# Altium footprint library OptoCoupler.PcbLib: 1 footprints
Each footprint in its own frame and in the unit in brackets; x right, y up, seen from the top. Pads: shape width x height; smd on the part's side, far side on the other; paste and mask are expansions set on the pad; w line width, h text height; cw(c..) or ccw(c..) is an arc to the next point about the centre after c.
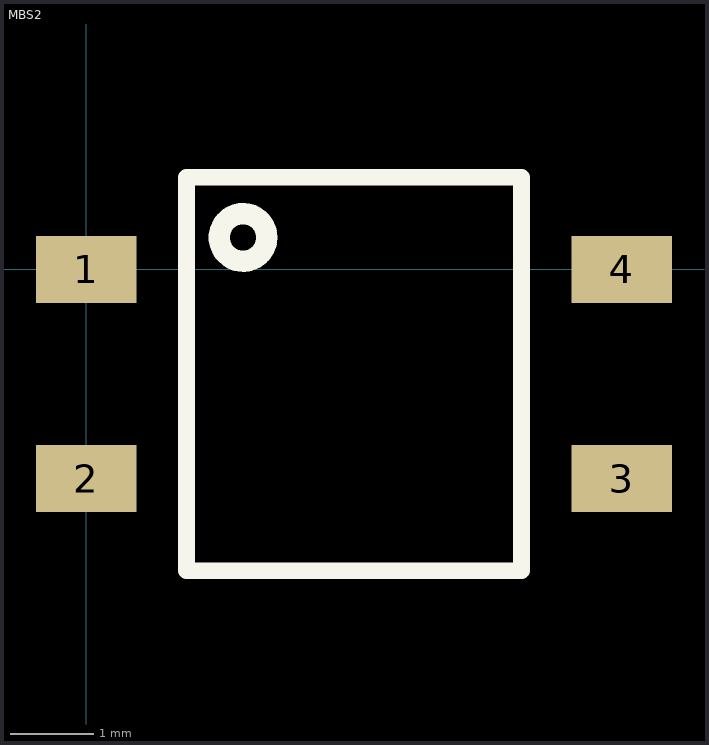
[diagram p0: the footprint, top view; thin cyan lines are the x and y axes]

## MBS2 [mm]
pads (4):
  rect 1.2x0.8 smd mask+0.05: 1(0,0) 2(0,-2.5) 3(6.4,-2.5) 4(6.4,0)
Top Overlay:
  circle w0.254: c1.875,0.381 r0.284
  lines w0.2: 1.2,-3.6 1.2,1.1 5.2,1.1 5.2,-3.6 1.2,-3.6
3D body: height 2.1, standoff 0, extent -0.3,-3 6.7,0.6